# Altium schematic symbol library xNEO_L.SchLib: 1 symbol
Pins are listed as number, name and electrical type; pins without a type are passive.

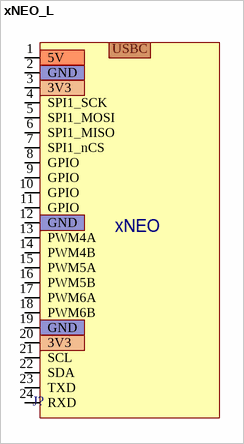
[diagram p0: symbol xNEO_L]

## xNEO_L
designator J?
pins: 1 5V, 2 GND, 3 3V3, 4 SPI1_SCK, 5 SPI1_MOSI, 6 SPI1_MISO, 7 SPI1_nCS, 8 GPIO, 9 GPIO, 10 GPIO, 11 GPIO, 12 GND, 13 PWM4A, 14 PWM4B, 15 PWM5A, 16 PWM5B, 17 PWM6A, 18 PWM6B, 19 GND, 20 3V3, 21 SCL, 22 SDA, 23 TXD, 24 RXD
text: USBC; xNEO